# EAGLE library part ADE9153AACPZ (library ADE9153AACPZ)
Data Acquisition ADCs/DACs - Specialized 1 PH Mtr IC w/ Auto Calibration Source: Datasheet <http://www.analog.com/media/en/technical-documentation/data-sheets/ade9153a.pdf>
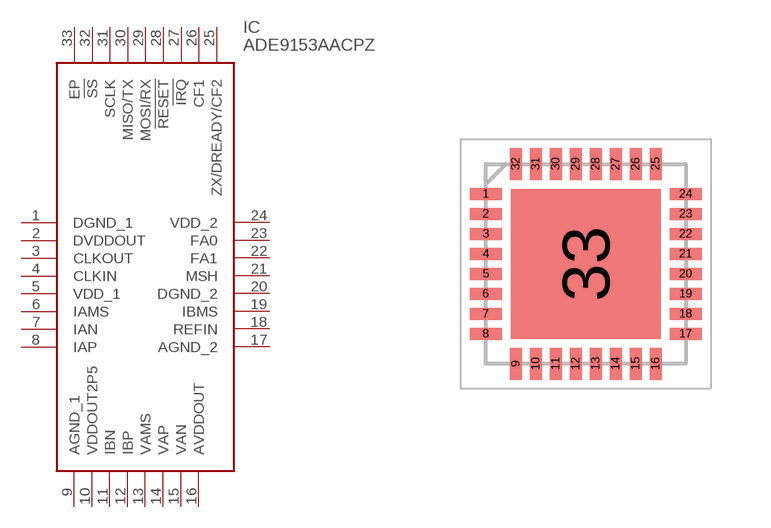
[diagram p0: symbol with the pads of QFN50P500X500X80-33N; footprint QFN50P500X500X80-33N]

Designator prefix IC

## ADE9153AACPZ (Description: Data Acquisition ADCs/DACs - Specialized 1 PH Mtr IC w/ Auto Calibration; Height: 0.8mm; Manufacturer_Name: Analog Devices; Manufacturer_Part_Number: ADE9153AACPZ; Mouser_Part_Number: 584-ADE9153AACPZ; Mouser_Price-Stock: https://www.mouser.co.uk/ProductDetail/Analog-Devices/ADE9153AACPZ?qs=rrS6PyfT74fO4%2FDiqnqz3A%3D%3D)  [QFN50P500X500X80-33N]
1  DGND_1
2  DVDDOUT
3  CLKOUT
4  CLKIN
5  VDD_1
6  IAMS
7  IAN
8  IAP
9  AGND_1
10  VDDOUT2P5
11  IBN
12  IBP
13  VAMS
14  VAP
15  VAN
16  AVDDOUT
17  AGND_2
18  REFIN
19  IBMS
20  DGND_2
21  MSH
22  FA1
23  FA0
24  VDD_2
25  ZX/DREADY/CF2
26  CF1
27  !IRQ
28  !RESET
29  MOSI/RX
30  MISO/TX
31  SCLK
32  !SS
33  EP

## Footprint QFN50P500X500X80-33N (pad centres in mm)
LFCSP-WQ CP-32-12
smd 0.8 x 0.3: 1 -2.5,1.75; 2 -2.5,1.25; 3 -2.5,0.75; 4 -2.5,0.25; 5 -2.5,-0.25; 6 -2.5,-0.75; 7 -2.5,-1.25; 8 -2.5,-1.75; 17 2.5,-1.75; 18 2.5,-1.25; 19 2.5,-0.75; 20 2.5,-0.25; 21 2.5,0.25; 22 2.5,0.75; 23 2.5,1.25; 24 2.5,1.75
smd 0.3 x 0.8: 9 -1.75,-2.5; 10 -1.25,-2.5; 11 -0.75,-2.5; 12 -0.25,-2.5; 13 0.25,-2.5; 14 0.75,-2.5; 15 1.25,-2.5; 16 1.75,-2.5; 25 1.75,2.5; 26 1.25,2.5; 27 0.75,2.5; 28 0.25,2.5; 29 -0.25,2.5; 30 -0.75,2.5; 31 -1.25,2.5; 32 -1.75,2.5
smd 3.75 x 3.75: 33 0,0